# Altium footprint library ACS756.PcbLib: 1 footprints
Each footprint in its own frame and in the unit in brackets; x right, y up, seen from the top. Pads: shape width x height; smd on the part's side, far side on the other; paste and mask are expansions set on the pad; w line width, h text height; cw(c..) or ccw(c..) is an arc to the next point about the centre after c.
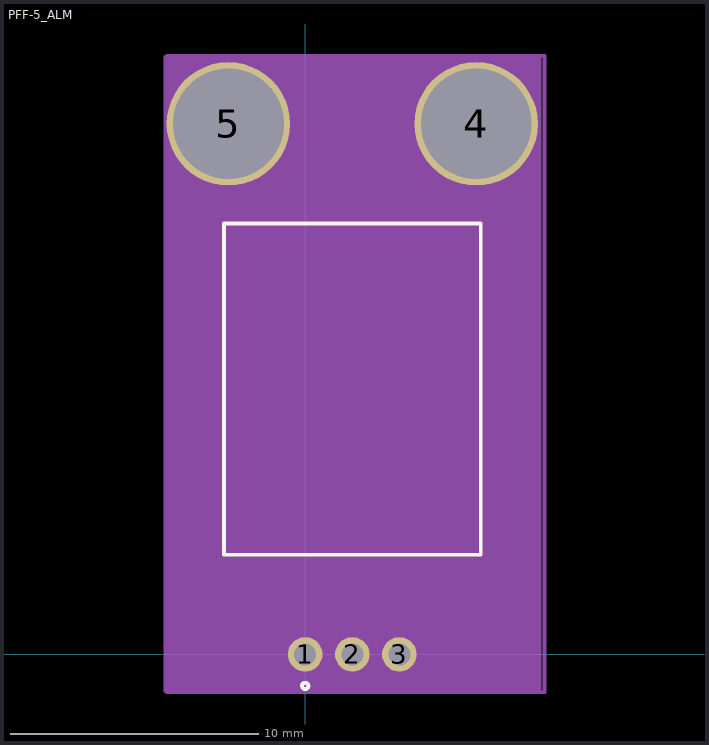
[diagram p0: the footprint, top view; thin cyan lines are the x and y axes]

## PFF-5_ALM [mil]
pads (5):
  round 55 hole 35 mask+0: 1(0,0) 2(74.8,0) 3(149.61,0)
  round 196 hole 176 mask+0: 4(271.65,843) 5(-122.05,843)
Top Overlay:
  circle w6: c0,-50 r5
  lines w6: -129.2,158.5 278.8,158.5 278.8,684.5 -129.2,684.5 -129.2,158.5
Mechanical 5:
  region: 375,-60 -225,-60 -225,951 375,951
Mechanical 13:
  circle w0: c0,-10 r5
  lines w1: -124.2,163.5 273.8,163.5 273.8,679.5 -124.2,679.5 -124.2,163.5
Mechanical 15:
  region: 370,-60 -225,-60 -225,951 370,951
  lines w6: -220,-60 -220,951 380,951 380,-60 -220,-60
3D body: height 10, standoff 0, extent 0,0 10,10
3D body "User Library-ACS758-1.STEP": height 314.96, standoff -98.43, extent -201.18,-20.72 350,870.72